# EAGLE library part QSE-020-01-L-D-A (library con-samtec02)
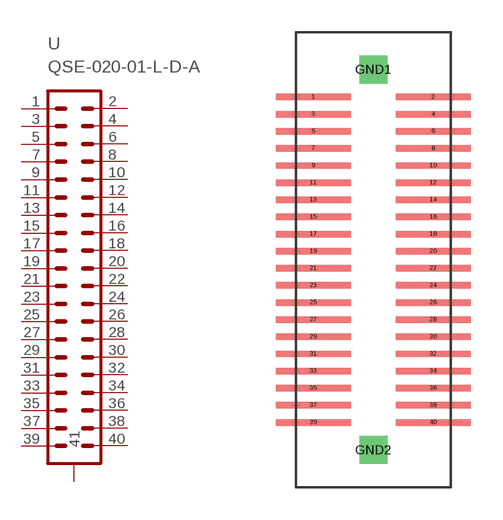
[diagram p30: symbol with the pads of QSE-020-01-L-D-A; footprint QSE-020-01-L-D-A]

Designator prefix -

## QSE-020-01-L-D-A  [QSE-020-01-L-D-A]
1  1  pas
2  2  pas
3  3  pas
4  4  pas
5  5  pas
6  6  pas
7  7  pas
8  8  pas
9  9  pas
10  10  pas
11  11  pas
12  12  pas
13  13  pas
14  14  pas
15  15  pas
16  16  pas
17  17  pas
18  18  pas
19  19  pas
20  20  pas
21  21  pas
22  22  pas
23  23  pas
24  24  pas
25  25  pas
26  26  pas
27  27  pas
28  28  pas
29  29  pas
30  30  pas
31  31  pas
32  32  pas
33  33  pas
34  34  pas
35  35  pas
36  36  pas
37  37  pas
38  38  pas
39  39  pas
40  40  pas
GND1  41  pas
GND2  42  pas

## Footprint QSE-020-01-L-D-A (pad centres in mm)
smd 3.5 x 0.3: 1 -2.8,7.6; 2 2.8,7.6; 3 -2.8,6.8; 4 2.8,6.8; 5 -2.8,6; 6 2.8,6; 7 -2.8,5.2; 8 2.8,5.2; 9 -2.8,4.4; 10 2.8,4.4; 11 -2.8,3.6; 12 2.8,3.6; 13 -2.8,2.8; 14 2.8,2.8; 15 -2.8,2; 16 2.8,2; 17 -2.8,1.2; 18 2.8,1.2; 19 -2.8,0.4; 20 2.8,0.4; 21 -2.8,-0.4; 22 2.8,-0.4; 23 -2.8,-1.2; 24 2.8,-1.2; 25 -2.8,-2; 26 2.8,-2; 27 -2.8,-2.8; 28 2.8,-2.8; 29 -2.8,-3.6; 30 2.8,-3.6; 31 -2.8,-4.4; 32 2.8,-4.4; 33 -2.8,-5.2; 34 2.8,-5.2; 35 -2.8,-6; 36 2.8,-6; 37 -2.8,-6.8; 38 2.8,-6.8; 39 -2.8,-7.6; 40 2.8,-7.6
drill 0.8 square: GND1 0,8.89; GND2 0,-8.89